# Altium integrated library Linear Technology PMIC-Switching Reg LTC1174-LTC3901.IntLib: 2647 symbols (part 192 of 310)
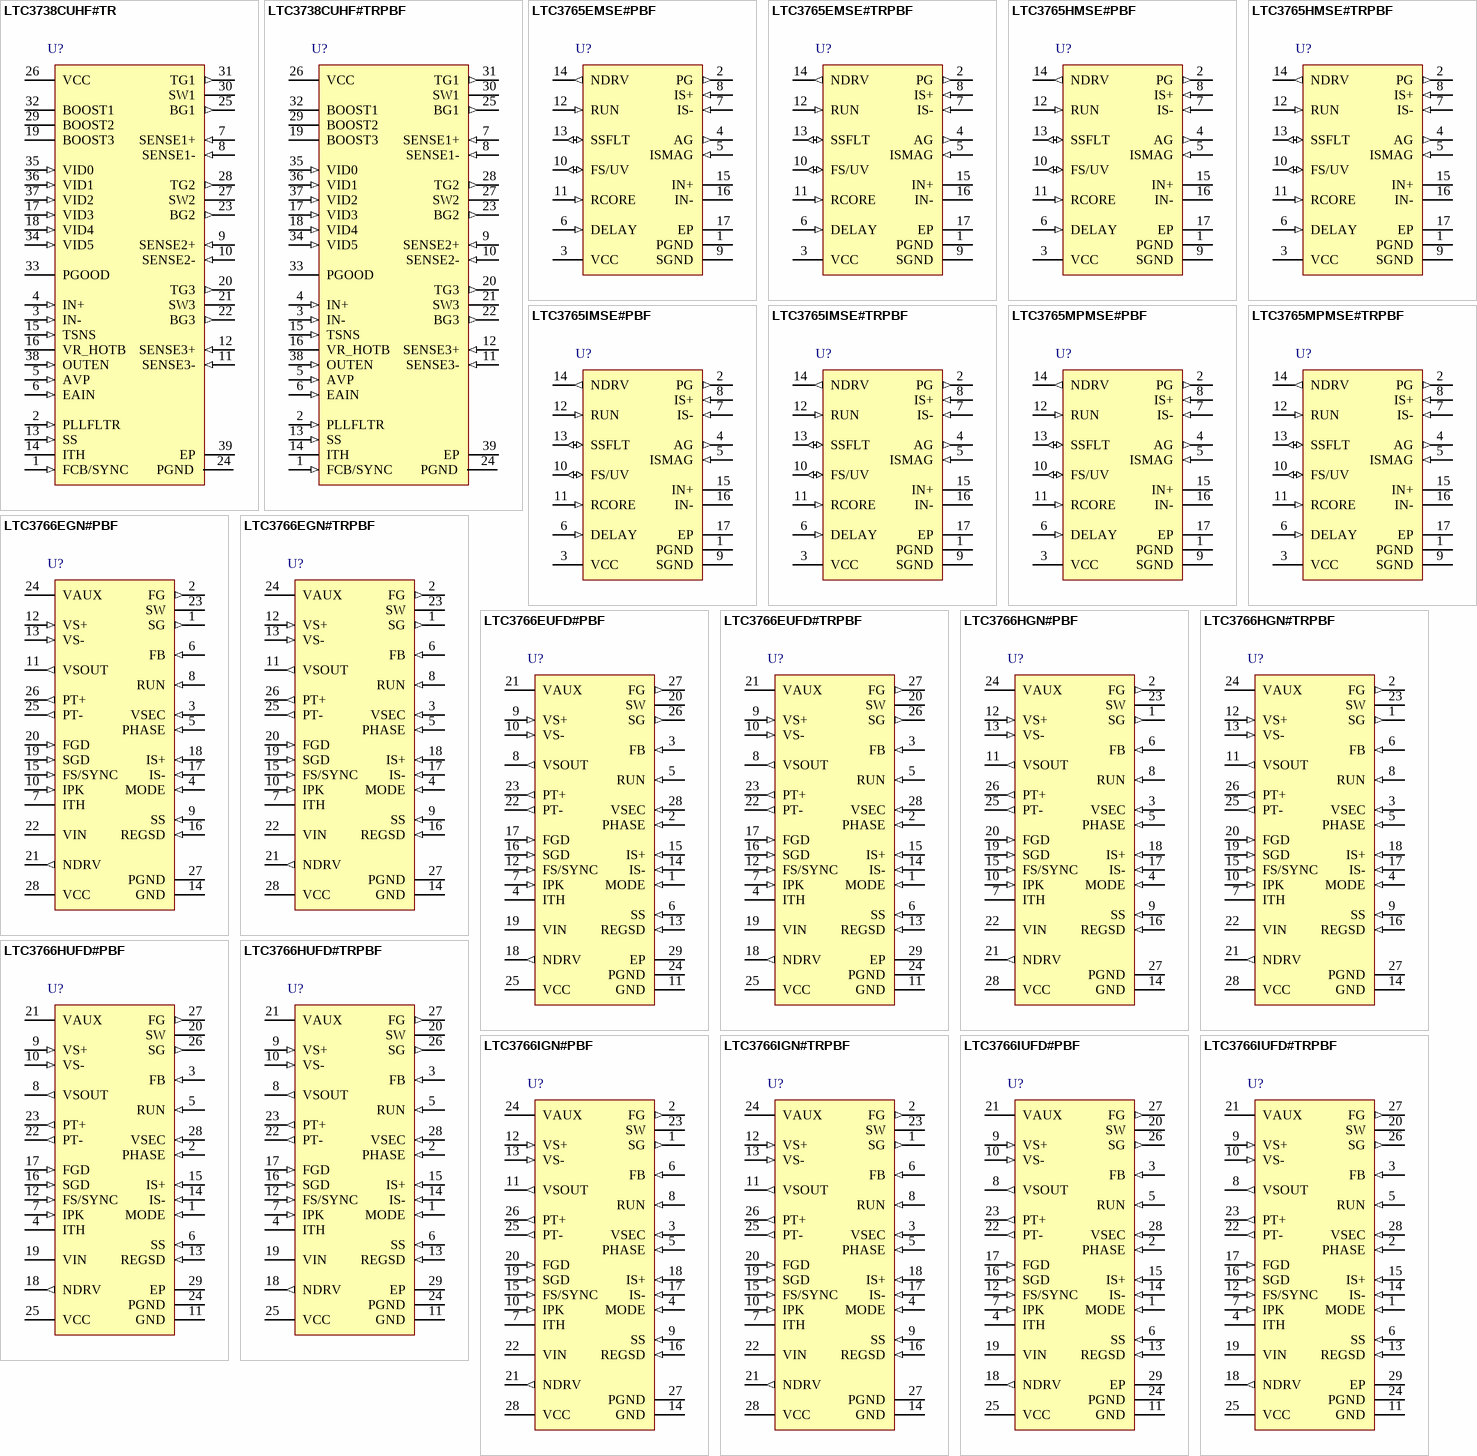
[diagram p227: symbols LTC3738CUHF#TR to LTC3766IUFD#TRPBF]

## LTC3766HGN#TRPBF
designator U?
High Efficiency, Secondary-Side Synchronous Forward Controller, 28-pin SOP (GN-28), -40 to150 degC, Pb-Free, Tape and Reel; Manufacturer: Linear Technology; PartNumber: LTC3766HGN#TRPBF; Number of Outputs: 1; PackageReference: GN-28; PackageDescription: 28-Pin Plastic SSOP, Body 9.9 x 3.9 mm, Pitch 0.635 mm; Supplier 1: Digi-Key; Supplier Part Number 1: LTC3766HGN#TRPBF-ND; RoHS: TRUE
footprint LT-GN-28_N (SOP, 28-Leads, Body 9.98x3.98mm, Pitch 0.635mm, IPC Medium Density)
footprint LT-GN-28_L (SOP, 28-Leads, Body 9.98x3.98mm, Pitch 0.635mm, IPC High Density)
footprint LT-GN-28_M (SOP, 28-Leads, Body 9.98x3.98mm, Pitch 0.635mm, IPC Low Density)
pins: 1 SG (out) "Gate Drive for the Synchronous MOSFET", 2 FG (out) "Gate Drive for the Forward MOSFET", 3 VSEC (in) "Volt-Second Limit. Connect a resistor from SW to VSEC, and a capacitor from VSEC to GND to set the maximum volt-second product that is applied to the main power transformer. The PWM on-time is terminated when the VSEC (See Datasheet)", 4 MODE (in) "For normal isolated applications using the LTC3765, tie to either GND or VCC to set the operating voltage to either low voltage or high voltage modes respectively, as needed to drive the gates of the synchronous and forward (See Datasheet)", 5 PHASE (in) "Control Input to the Phase Selector. This pin determines the phasing of the internal controller CLK relative to the synchronizing signal at the FS/SYNC pin.", 6 FB (in) "The Inverting Input of the Main Loop Error Amplifier. Tie to VCC to enable slave mode in PolyPhase applications.", 7 ITH "The Output of the Main Loop Error Amplifier. Place compensation components between the ITH pin and GND.", 8 RUN (in) "Run Control Input. Holding this pin below 1.22V will shut down the IC and reset the soft-start and REGSD pins to 0V.", 9 SS (in) "Soft-Start Inputs. A capacitor to ground sets the ramp time of the output voltage", 10 IPK (in) "Peak Current Limit Inductor Ripple Cancellation. This pin is used to adjust the peak current limit based on the amount of inductor current ripple, thereby providing a constant average output current during current limit. (See Datasheet)", 11 VSOUT (out) "VSOUT is the output of a precision, unity-gain differential amplifier. Tie VS+ and VS- to the output of the main DC/DC converter to achieve true remote differential sensing. Also, VS+ is used for directly sensing the output (See Datasheet)", 12 VS+ (in) "VSOUT is the output of a precision, unity-gain differential amplifier. Tie VS+ and VS- to the output of the main DC/DC converter to achieve true remote differential sensing. Also, VS+ is used for directly sensing the output (See Datasheet)", 13 VS- (in) "VSOUT is the output of a precision, unity-gain differential amplifier. Tie VS+ and VS- to the output of the main DC/DC converter to achieve true remote differential sensing. Also, VS+ is used for directly sensing the output (See Datasheet)", 14 GND (power) "Signal Ground and Kelvin Sense for SG Reverse Overcurrent. Connect to power ground at the source of the synchronous MOSFET. The exposed pad must be soldered to PCB ground for rated thermal performance.", 15 FS/SYNC (in) "Combination Frequency Set and Sync Pin. Tie to VCC to run at 275kHz. Place a resistor to ground at this pin to set the frequency between 75kHz and 500kHz. To synchronize, drive this pin with a clock signal to achieve PLL (See Datasheet)", 16 REGSD (in) "Regulator Shutdown Timer. Place a capacitor to ground to limit the time allowed for the high voltage linear regulator controller to operate. When the REGSD voltage exceeds 1.21V, the linear regulator is shut down. This pin (See Datasheet)", 17 IS- (in) "Negative Input to the Current Sense Circuit. Connect to the negative end of a low side current sense resistor. When using a current sense transformer, tie this pin to VCC for single-ended sensing on IS+ with a higher maximum (See Datasheet)", 18 IS+ (in) "Positive Input to the Current Sense Circuit. Connect to the positive end of a low side current sense resistor or to the output of a current sense transformer.", 19 SGD (in) "Synchronous Gate Rising Edge Delay. A resistor to GND sets the delay from primary gate turnoff (PT+ falling) to SG rising (and FG falling). This delay is used to optimize the dead time between the turn-off of the (See Datasheet)", 20 FGD (in) "Forward Gate Rising Edge Delay. A resistor to GND sets the delay from PT+ rising to FG rising (and SG falling). This delay is used to optimize the dead time between the turn-off of SG and the turn-on of theprimary-side (See Datasheet)", 21 NDRV (out) "Drive Output for the External Pass Device of the High Voltage Linear Regulator Controller. Connect to the base (NPN) or gate (MOSFET) of an external N-type device. Tie to VCC pin if only using the internal LDO (VAUX pin).", 22 VIN (power) "Connect to a higher voltage bias supply when using the linear regulator controller. The VIN pin supplies bias to the internal standby and monitoring circuits, the linear regulator controller, and the differential amplifier. (See Datasheet)", 23 SW "Connect (Kelvin) to the drain of the synchronous MOSFET. This input is used for adaptive shoot-through prevention and leading-edge blanking, monitoring the high level SW node voltage and SG reversecurrent protection. When SW (See Datasheet)", 24 VAUX (power) "Auxiliary Power Input. This is the power input to an internal LDO that is connected to VCC. Whenever VAUX is greater than 4.7V (or 8V for high voltage mode), this LDO will supply power to VCC, bypassing the main linear (See Datasheet)", 25 PT- (out) "Pulse Transformer Driver Outputs. For most applications, these connect to a pulse transformer through a series DC-blocking capacitor. The PWM information is multiplexed together with DC power and sent through the pulse (See Datasheet)", 26 PT+ (out) "Pulse Transformer Driver Outputs. For most applications, these connect to a pulse transformer through a series DC-blocking capacitor. The PWM information is multiplexed together with DC power and sent through the pulse (See Datasheet)", 27 PGND (power) "Gate Driver Ground Pin. Connect to power ground at the source of the synchronous MOSFET.", 28 VCC (power) "Main VCC Input for All Driver and Control Circuitry."

## LTC3766HUFD#PBF
designator U?
High Efficiency, Secondary-Side Synchronous Forward Controller, 28-pin QFN (UFD-28), -40 to150 degC, Pb-Free; Manufacturer: Linear Technology; PartNumber: LTC3766HUFD#PBF; Number of Outputs: 1; PackageReference: UFD-28; PackageDescription: 28-Pin Plastic QFN, Body 5 x 4 mm, Pitch 0.5 mm; Supplier 1: Digi-Key; Supplier Part Number 1: LTC3766HUFD#PBF-ND; RoHS: TRUE; Code_JEDEC: MO-220
footprint LT-UFD-28_N (QFN, 28-Leads, Body 5.1x4.1mm, Pitch 0.5mm, Thermal Pad 3.65x2.65mm, IPC Medium Density)
footprint LT-UFD-28_L (QFN, 28-Leads, Body 5.1x4.1mm, Pitch 0.5mm, Thermal Pad 3.65x2.65mm, IPC High Density)
footprint LT-UFD-28_M (QFN, 28-Leads, Body 5.1x4.1mm, Pitch 0.5mm, Thermal Pad 3.65x2.65mm, IPC Low Density)
pins: 1 MODE (in) "For normal isolated applications using the LTC3765, tie to either GND or VCC to set the operating voltage to either low voltage or high voltage modes respectively, as needed to drive the gates of the synchronous and forward (See Datasheet)", 2 PHASE (in) "Control Input to the Phase Selector. This pin determines the phasing of the internal controller CLK relative to the synchronizing signal at the FS/SYNC pin.", 3 FB (in) "The Inverting Input of the Main Loop Error Amplifier. Tie to VCC to enable slave mode in PolyPhase applications.", 4 ITH "The Output of the Main Loop Error Amplifier. Place compensation components between the ITH pin and GND.", 5 RUN (in) "Run Control Input. Holding this pin below 1.22V will shut down the IC and reset the soft-start and REGSD pins to 0V.", 6 SS (in) "Soft-Start Inputs. A capacitor to ground sets the ramp time of the output voltage", 7 IPK (in) "Peak Current Limit Inductor Ripple Cancellation. This pin is used to adjust the peak current limit based on the amount of inductor current ripple, thereby providing a constant average output current during current limit. (See Datasheet)", 8 VSOUT (out) "VSOUT is the output of a precision, unity-gain differential amplifier. Tie VS+ and VS- to the output of the main DC/DC converter to achieve true remote differential sensing. Also, VS+ is used for directly sensing the output (See Datasheet)", 9 VS+ (in) "VSOUT is the output of a precision, unity-gain differential amplifier. Tie VS+ and VS- to the output of the main DC/DC converter to achieve true remote differential sensing. Also, VS+ is used for directly sensing the output (See Datasheet)", 10 VS- (in) "VSOUT is the output of a precision, unity-gain differential amplifier. Tie VS+ and VS- to the output of the main DC/DC converter to achieve true remote differential sensing. Also, VS+ is used for directly sensing the output (See Datasheet)", 11 GND (power) "Signal Ground and Kelvin Sense for SG Reverse Overcurrent. Connect to power ground at the source of the synchronous MOSFET. The exposed pad must be soldered to PCB ground for rated thermal performance.", 12 FS/SYNC (in) "Combination Frequency Set and Sync Pin. Tie to VCC to run at 275kHz. Place a resistor to ground at this pin to set the frequency between 75kHz and 500kHz. To synchronize, drive this pin with a clock signal to achieve PLL (See Datasheet)", 13 REGSD (in) "Regulator Shutdown Timer. Place a capacitor to ground to limit the time allowed for the high voltage linear regulator controller to operate. When the REGSD voltage exceeds 1.21V, the linear regulator is shut down. This pin (See Datasheet)", 14 IS- (in) "Negative Input to the Current Sense Circuit. Connect to the negative end of a low side current sense resistor. When using a current sense transformer, tie this pin to VCC for single-ended sensing on IS+ with a higher maximum (See Datasheet)", 15 IS+ (in) "Positive Input to the Current Sense Circuit. Connect to the positive end of a low side current sense resistor or to the output of a current sense transformer.", 16 SGD (in) "Synchronous Gate Rising Edge Delay. A resistor to GND sets the delay from primary gate turnoff (PT+ falling) to SG rising (and FG falling). This delay is used to optimize the dead time between the turn-off of the (See Datasheet)", 17 FGD (in) "Forward Gate Rising Edge Delay. A resistor to GND sets the delay from PT+ rising to FG rising (and SG falling). This delay is used to optimize the dead time between the turn-off of SG and the turn-on of theprimary-side (See Datasheet)", 18 NDRV (out) "Drive Output for the External Pass Device of the High Voltage Linear Regulator Controller. Connect to the base (NPN) or gate (MOSFET) of an external N-type device. Tie to VCC pin if only using the internal LDO (VAUX pin).", 19 VIN (power) "Connect to a higher voltage bias supply when using the linear regulator controller. The VIN pin supplies bias to the internal standby and monitoring circuits, the linear regulator controller, and the differential amplifier. (See Datasheet)", 20 SW "Connect (Kelvin) to the drain of the synchronous MOSFET. This input is used for adaptive shoot-through prevention and leading-edge blanking, monitoring the high level SW node voltage and SG reversecurrent protection. When SW (See Datasheet)", 21 VAUX (power) "Auxiliary Power Input. This is the power input to an internal LDO that is connected to VCC. Whenever VAUX is greater than 4.7V (or 8V for high voltage mode), this LDO will supply power to VCC, bypassing the main linear (See Datasheet)", 22 PT- (out) "Pulse Transformer Driver Outputs. For most applications, these connect to a pulse transformer through a series DC-blocking capacitor. The PWM information is multiplexed together with DC power and sent through the pulse (See Datasheet)", 23 PT+ (out) "Pulse Transformer Driver Outputs. For most applications, these connect to a pulse transformer through a series DC-blocking capacitor. The PWM information is multiplexed together with DC power and sent through the pulse (See Datasheet)", 24 PGND (power) "Gate Driver Ground Pin. Connect to power ground at the source of the synchronous MOSFET.", 25 VCC (power) "Main VCC Input for All Driver and Control Circuitry.", 26 SG (out) "Gate Drive for the Synchronous MOSFET", 27 FG (out) "Gate Drive for the Forward MOSFET", 28 VSEC (in) "Volt-Second Limit. Connect a resistor from SW to VSEC, and a capacitor from VSEC to GND to set the maximum volt-second product that is applied to the main power transformer. The PWM on-time is terminated when the VSEC (See Datasheet)", 29 EP (power) "Signal Ground and Kelvin Sense for SG Reverse Overcurrent. Connect to power ground at the source of the synchronous MOSFET. The exposed pad must be soldered to PCB ground for rated thermal performance."

## LTC3766HUFD#TRPBF
designator U?
High Efficiency, Secondary-Side Synchronous Forward Controller, 28-pin QFN (UFD-28), -40 to150 degC, Pb-Free, Tape and Reel; Manufacturer: Linear Technology; PartNumber: LTC3766HUFD#TRPBF; Number of Outputs: 1; PackageReference: UFD-28; PackageDescription: 28-Pin Plastic QFN, Body 5 x 4 mm, Pitch 0.5 mm; Supplier 1: Digi-Key; Supplier Part Number 1: LTC3766HUFD#TRPBF-ND; RoHS: TRUE; Code_JEDEC: MO-220
footprint LT-UFD-28_N (QFN, 28-Leads, Body 5.1x4.1mm, Pitch 0.5mm, Thermal Pad 3.65x2.65mm, IPC Medium Density)
footprint LT-UFD-28_L (QFN, 28-Leads, Body 5.1x4.1mm, Pitch 0.5mm, Thermal Pad 3.65x2.65mm, IPC High Density)
footprint LT-UFD-28_M (QFN, 28-Leads, Body 5.1x4.1mm, Pitch 0.5mm, Thermal Pad 3.65x2.65mm, IPC Low Density)
pins: 1 MODE (in) "For normal isolated applications using the LTC3765, tie to either GND or VCC to set the operating voltage to either low voltage or high voltage modes respectively, as needed to drive the gates of the synchronous and forward (See Datasheet)", 2 PHASE (in) "Control Input to the Phase Selector. This pin determines the phasing of the internal controller CLK relative to the synchronizing signal at the FS/SYNC pin.", 3 FB (in) "The Inverting Input of the Main Loop Error Amplifier. Tie to VCC to enable slave mode in PolyPhase applications.", 4 ITH "The Output of the Main Loop Error Amplifier. Place compensation components between the ITH pin and GND.", 5 RUN (in) "Run Control Input. Holding this pin below 1.22V will shut down the IC and reset the soft-start and REGSD pins to 0V.", 6 SS (in) "Soft-Start Inputs. A capacitor to ground sets the ramp time of the output voltage", 7 IPK (in) "Peak Current Limit Inductor Ripple Cancellation. This pin is used to adjust the peak current limit based on the amount of inductor current ripple, thereby providing a constant average output current during current limit. (See Datasheet)", 8 VSOUT (out) "VSOUT is the output of a precision, unity-gain differential amplifier. Tie VS+ and VS- to the output of the main DC/DC converter to achieve true remote differential sensing. Also, VS+ is used for directly sensing the output (See Datasheet)", 9 VS+ (in) "VSOUT is the output of a precision, unity-gain differential amplifier. Tie VS+ and VS- to the output of the main DC/DC converter to achieve true remote differential sensing. Also, VS+ is used for directly sensing the output (See Datasheet)", 10 VS- (in) "VSOUT is the output of a precision, unity-gain differential amplifier. Tie VS+ and VS- to the output of the main DC/DC converter to achieve true remote differential sensing. Also, VS+ is used for directly sensing the output (See Datasheet)", 11 GND (power) "Signal Ground and Kelvin Sense for SG Reverse Overcurrent. Connect to power ground at the source of the synchronous MOSFET. The exposed pad must be soldered to PCB ground for rated thermal performance.", 12 FS/SYNC (in) "Combination Frequency Set and Sync Pin. Tie to VCC to run at 275kHz. Place a resistor to ground at this pin to set the frequency between 75kHz and 500kHz. To synchronize, drive this pin with a clock signal to achieve PLL (See Datasheet)", 13 REGSD (in) "Regulator Shutdown Timer. Place a capacitor to ground to limit the time allowed for the high voltage linear regulator controller to operate. When the REGSD voltage exceeds 1.21V, the linear regulator is shut down. This pin (See Datasheet)", 14 IS- (in) "Negative Input to the Current Sense Circuit. Connect to the negative end of a low side current sense resistor. When using a current sense transformer, tie this pin to VCC for single-ended sensing on IS+ with a higher maximum (See Datasheet)", 15 IS+ (in) "Positive Input to the Current Sense Circuit. Connect to the positive end of a low side current sense resistor or to the output of a current sense transformer.", 16 SGD (in) "Synchronous Gate Rising Edge Delay. A resistor to GND sets the delay from primary gate turnoff (PT+ falling) to SG rising (and FG falling). This delay is used to optimize the dead time between the turn-off of the (See Datasheet)", 17 FGD (in) "Forward Gate Rising Edge Delay. A resistor to GND sets the delay from PT+ rising to FG rising (and SG falling). This delay is used to optimize the dead time between the turn-off of SG and the turn-on of theprimary-side (See Datasheet)", 18 NDRV (out) "Drive Output for the External Pass Device of the High Voltage Linear Regulator Controller. Connect to the base (NPN) or gate (MOSFET) of an external N-type device. Tie to VCC pin if only using the internal LDO (VAUX pin).", 19 VIN (power) "Connect to a higher voltage bias supply when using the linear regulator controller. The VIN pin supplies bias to the internal standby and monitoring circuits, the linear regulator controller, and the differential amplifier. (See Datasheet)", 20 SW "Connect (Kelvin) to the drain of the synchronous MOSFET. This input is used for adaptive shoot-through prevention and leading-edge blanking, monitoring the high level SW node voltage and SG reversecurrent protection. When SW (See Datasheet)", 21 VAUX (power) "Auxiliary Power Input. This is the power input to an internal LDO that is connected to VCC. Whenever VAUX is greater than 4.7V (or 8V for high voltage mode), this LDO will supply power to VCC, bypassing the main linear (See Datasheet)", 22 PT- (out) "Pulse Transformer Driver Outputs. For most applications, these connect to a pulse transformer through a series DC-blocking capacitor. The PWM information is multiplexed together with DC power and sent through the pulse (See Datasheet)", 23 PT+ (out) "Pulse Transformer Driver Outputs. For most applications, these connect to a pulse transformer through a series DC-blocking capacitor. The PWM information is multiplexed together with DC power and sent through the pulse (See Datasheet)", 24 PGND (power) "Gate Driver Ground Pin. Connect to power ground at the source of the synchronous MOSFET.", 25 VCC (power) "Main VCC Input for All Driver and Control Circuitry.", 26 SG (out) "Gate Drive for the Synchronous MOSFET", 27 FG (out) "Gate Drive for the Forward MOSFET", 28 VSEC (in) "Volt-Second Limit. Connect a resistor from SW to VSEC, and a capacitor from VSEC to GND to set the maximum volt-second product that is applied to the main power transformer. The PWM on-time is terminated when the VSEC (See Datasheet)", 29 EP (power) "Signal Ground and Kelvin Sense for SG Reverse Overcurrent. Connect to power ground at the source of the synchronous MOSFET. The exposed pad must be soldered to PCB ground for rated thermal performance."

## LTC3766IGN#PBF
designator U?
High Efficiency, Secondary-Side Synchronous Forward Controller, 28-pin SOP (GN-28), -40 to 125 degC, Pb-Free; Manufacturer: Linear Technology; PartNumber: LTC3766IGN#PBF; Number of Outputs: 1; PackageReference: GN-28; PackageDescription: 28-Pin Plastic SSOP, Body 9.9 x 3.9 mm, Pitch 0.635 mm; Supplier 1: Digi-Key; Supplier Part Number 1: LTC3766IGN#PBF-ND; RoHS: TRUE
footprint LT-GN-28_N (SOP, 28-Leads, Body 9.98x3.98mm, Pitch 0.635mm, IPC Medium Density)
footprint LT-GN-28_L (SOP, 28-Leads, Body 9.98x3.98mm, Pitch 0.635mm, IPC High Density)
footprint LT-GN-28_M (SOP, 28-Leads, Body 9.98x3.98mm, Pitch 0.635mm, IPC Low Density)
pins: 1 SG (out) "Gate Drive for the Synchronous MOSFET", 2 FG (out) "Gate Drive for the Forward MOSFET", 3 VSEC (in) "Volt-Second Limit. Connect a resistor from SW to VSEC, and a capacitor from VSEC to GND to set the maximum volt-second product that is applied to the main power transformer. The PWM on-time is terminated when the VSEC (See Datasheet)", 4 MODE (in) "For normal isolated applications using the LTC3765, tie to either GND or VCC to set the operating voltage to either low voltage or high voltage modes respectively, as needed to drive the gates of the synchronous and forward (See Datasheet)", 5 PHASE (in) "Control Input to the Phase Selector. This pin determines the phasing of the internal controller CLK relative to the synchronizing signal at the FS/SYNC pin.", 6 FB (in) "The Inverting Input of the Main Loop Error Amplifier. Tie to VCC to enable slave mode in PolyPhase applications.", 7 ITH "The Output of the Main Loop Error Amplifier. Place compensation components between the ITH pin and GND.", 8 RUN (in) "Run Control Input. Holding this pin below 1.22V will shut down the IC and reset the soft-start and REGSD pins to 0V.", 9 SS (in) "Soft-Start Inputs. A capacitor to ground sets the ramp time of the output voltage", 10 IPK (in) "Peak Current Limit Inductor Ripple Cancellation. This pin is used to adjust the peak current limit based on the amount of inductor current ripple, thereby providing a constant average output current during current limit. (See Datasheet)", 11 VSOUT (out) "VSOUT is the output of a precision, unity-gain differential amplifier. Tie VS+ and VS- to the output of the main DC/DC converter to achieve true remote differential sensing. Also, VS+ is used for directly sensing the output (See Datasheet)", 12 VS+ (in) "VSOUT is the output of a precision, unity-gain differential amplifier. Tie VS+ and VS- to the output of the main DC/DC converter to achieve true remote differential sensing. Also, VS+ is used for directly sensing the output (See Datasheet)", 13 VS- (in) "VSOUT is the output of a precision, unity-gain differential amplifier. Tie VS+ and VS- to the output of the main DC/DC converter to achieve true remote differential sensing. Also, VS+ is used for directly sensing the output (See Datasheet)", 14 GND (power) "Signal Ground and Kelvin Sense for SG Reverse Overcurrent. Connect to power ground at the source of the synchronous MOSFET. The exposed pad must be soldered to PCB ground for rated thermal performance.", 15 FS/SYNC (in) "Combination Frequency Set and Sync Pin. Tie to VCC to run at 275kHz. Place a resistor to ground at this pin to set the frequency between 75kHz and 500kHz. To synchronize, drive this pin with a clock signal to achieve PLL (See Datasheet)", 16 REGSD (in) "Regulator Shutdown Timer. Place a capacitor to ground to limit the time allowed for the high voltage linear regulator controller to operate. When the REGSD voltage exceeds 1.21V, the linear regulator is shut down. This pin (See Datasheet)", 17 IS- (in) "Negative Input to the Current Sense Circuit. Connect to the negative end of a low side current sense resistor. When using a current sense transformer, tie this pin to VCC for single-ended sensing on IS+ with a higher maximum (See Datasheet)", 18 IS+ (in) "Positive Input to the Current Sense Circuit. Connect to the positive end of a low side current sense resistor or to the output of a current sense transformer.", 19 SGD (in) "Synchronous Gate Rising Edge Delay. A resistor to GND sets the delay from primary gate turnoff (PT+ falling) to SG rising (and FG falling). This delay is used to optimize the dead time between the turn-off of the (See Datasheet)", 20 FGD (in) "Forward Gate Rising Edge Delay. A resistor to GND sets the delay from PT+ rising to FG rising (and SG falling). This delay is used to optimize the dead time between the turn-off of SG and the turn-on of theprimary-side (See Datasheet)", 21 NDRV (out) "Drive Output for the External Pass Device of the High Voltage Linear Regulator Controller. Connect to the base (NPN) or gate (MOSFET) of an external N-type device. Tie to VCC pin if only using the internal LDO (VAUX pin).", 22 VIN (power) "Connect to a higher voltage bias supply when using the linear regulator controller. The VIN pin supplies bias to the internal standby and monitoring circuits, the linear regulator controller, and the differential amplifier. (See Datasheet)", 23 SW "Connect (Kelvin) to the drain of the synchronous MOSFET. This input is used for adaptive shoot-through prevention and leading-edge blanking, monitoring the high level SW node voltage and SG reversecurrent protection. When SW (See Datasheet)", 24 VAUX (power) "Auxiliary Power Input. This is the power input to an internal LDO that is connected to VCC. Whenever VAUX is greater than 4.7V (or 8V for high voltage mode), this LDO will supply power to VCC, bypassing the main linear (See Datasheet)", 25 PT- (out) "Pulse Transformer Driver Outputs. For most applications, these connect to a pulse transformer through a series DC-blocking capacitor. The PWM information is multiplexed together with DC power and sent through the pulse (See Datasheet)", 26 PT+ (out) "Pulse Transformer Driver Outputs. For most applications, these connect to a pulse transformer through a series DC-blocking capacitor. The PWM information is multiplexed together with DC power and sent through the pulse (See Datasheet)", 27 PGND (power) "Gate Driver Ground Pin. Connect to power ground at the source of the synchronous MOSFET.", 28 VCC (power) "Main VCC Input for All Driver and Control Circuitry."

## LTC3766IGN#TRPBF
designator U?
High Efficiency, Secondary-Side Synchronous Forward Controller, 28-pin SOP (GN-28), -40 to 125 degC, Pb-Free, Tape and Reel; Manufacturer: Linear Technology; PartNumber: LTC3766IGN#TRPBF; Number of Outputs: 1; PackageReference: GN-28; PackageDescription: 28-Pin Plastic SSOP, Body 9.9 x 3.9 mm, Pitch 0.635 mm; Supplier 1: Digi-Key; Supplier Part Number 1: LTC3766IGN#TRPBF-ND; RoHS: TRUE
footprint LT-GN-28_N (SOP, 28-Leads, Body 9.98x3.98mm, Pitch 0.635mm, IPC Medium Density)
footprint LT-GN-28_L (SOP, 28-Leads, Body 9.98x3.98mm, Pitch 0.635mm, IPC High Density)
footprint LT-GN-28_M (SOP, 28-Leads, Body 9.98x3.98mm, Pitch 0.635mm, IPC Low Density)
pins: 1 SG (out) "Gate Drive for the Synchronous MOSFET", 2 FG (out) "Gate Drive for the Forward MOSFET", 3 VSEC (in) "Volt-Second Limit. Connect a resistor from SW to VSEC, and a capacitor from VSEC to GND to set the maximum volt-second product that is applied to the main power transformer. The PWM on-time is terminated when the VSEC (See Datasheet)", 4 MODE (in) "For normal isolated applications using the LTC3765, tie to either GND or VCC to set the operating voltage to either low voltage or high voltage modes respectively, as needed to drive the gates of the synchronous and forward (See Datasheet)", 5 PHASE (in) "Control Input to the Phase Selector. This pin determines the phasing of the internal controller CLK relative to the synchronizing signal at the FS/SYNC pin.", 6 FB (in) "The Inverting Input of the Main Loop Error Amplifier. Tie to VCC to enable slave mode in PolyPhase applications.", 7 ITH "The Output of the Main Loop Error Amplifier. Place compensation components between the ITH pin and GND.", 8 RUN (in) "Run Control Input. Holding this pin below 1.22V will shut down the IC and reset the soft-start and REGSD pins to 0V.", 9 SS (in) "Soft-Start Inputs. A capacitor to ground sets the ramp time of the output voltage", 10 IPK (in) "Peak Current Limit Inductor Ripple Cancellation. This pin is used to adjust the peak current limit based on the amount of inductor current ripple, thereby providing a constant average output current during current limit. (See Datasheet)", 11 VSOUT (out) "VSOUT is the output of a precision, unity-gain differential amplifier. Tie VS+ and VS- to the output of the main DC/DC converter to achieve true remote differential sensing. Also, VS+ is used for directly sensing the output (See Datasheet)", 12 VS+ (in) "VSOUT is the output of a precision, unity-gain differential amplifier. Tie VS+ and VS- to the output of the main DC/DC converter to achieve true remote differential sensing. Also, VS+ is used for directly sensing the output (See Datasheet)", 13 VS- (in) "VSOUT is the output of a precision, unity-gain differential amplifier. Tie VS+ and VS- to the output of the main DC/DC converter to achieve true remote differential sensing. Also, VS+ is used for directly sensing the output (See Datasheet)", 14 GND (power) "Signal Ground and Kelvin Sense for SG Reverse Overcurrent. Connect to power ground at the source of the synchronous MOSFET. The exposed pad must be soldered to PCB ground for rated thermal performance.", 15 FS/SYNC (in) "Combination Frequency Set and Sync Pin. Tie to VCC to run at 275kHz. Place a resistor to ground at this pin to set the frequency between 75kHz and 500kHz. To synchronize, drive this pin with a clock signal to achieve PLL (See Datasheet)", 16 REGSD (in) "Regulator Shutdown Timer. Place a capacitor to ground to limit the time allowed for the high voltage linear regulator controller to operate. When the REGSD voltage exceeds 1.21V, the linear regulator is shut down. This pin (See Datasheet)", 17 IS- (in) "Negative Input to the Current Sense Circuit. Connect to the negative end of a low side current sense resistor. When using a current sense transformer, tie this pin to VCC for single-ended sensing on IS+ with a higher maximum (See Datasheet)", 18 IS+ (in) "Positive Input to the Current Sense Circuit. Connect to the positive end of a low side current sense resistor or to the output of a current sense transformer.", 19 SGD (in) "Synchronous Gate Rising Edge Delay. A resistor to GND sets the delay from primary gate turnoff (PT+ falling) to SG rising (and FG falling). This delay is used to optimize the dead time between the turn-off of the (See Datasheet)", 20 FGD (in) "Forward Gate Rising Edge Delay. A resistor to GND sets the delay from PT+ rising to FG rising (and SG falling). This delay is used to optimize the dead time between the turn-off of SG and the turn-on of theprimary-side (See Datasheet)", 21 NDRV (out) "Drive Output for the External Pass Device of the High Voltage Linear Regulator Controller. Connect to the base (NPN) or gate (MOSFET) of an external N-type device. Tie to VCC pin if only using the internal LDO (VAUX pin).", 22 VIN (power) "Connect to a higher voltage bias supply when using the linear regulator controller. The VIN pin supplies bias to the internal standby and monitoring circuits, the linear regulator controller, and the differential amplifier. (See Datasheet)", 23 SW "Connect (Kelvin) to the drain of the synchronous MOSFET. This input is used for adaptive shoot-through prevention and leading-edge blanking, monitoring the high level SW node voltage and SG reversecurrent protection. When SW (See Datasheet)", 24 VAUX (power) "Auxiliary Power Input. This is the power input to an internal LDO that is connected to VCC. Whenever VAUX is greater than 4.7V (or 8V for high voltage mode), this LDO will supply power to VCC, bypassing the main linear (See Datasheet)", 25 PT- (out) "Pulse Transformer Driver Outputs. For most applications, these connect to a pulse transformer through a series DC-blocking capacitor. The PWM information is multiplexed together with DC power and sent through the pulse (See Datasheet)", 26 PT+ (out) "Pulse Transformer Driver Outputs. For most applications, these connect to a pulse transformer through a series DC-blocking capacitor. The PWM information is multiplexed together with DC power and sent through the pulse (See Datasheet)", 27 PGND (power) "Gate Driver Ground Pin. Connect to power ground at the source of the synchronous MOSFET.", 28 VCC (power) "Main VCC Input for All Driver and Control Circuitry."

## LTC3766IUFD#PBF
designator U?
High Efficiency, Secondary-Side Synchronous Forward Controller, 28-pin QFN (UFD-28), -40 to 125 degC, Pb-Free; Manufacturer: Linear Technology; PartNumber: LTC3766IUFD#PBF; Number of Outputs: 1; PackageReference: UFD-28; PackageDescription: 28-Pin Plastic QFN, Body 5 x 4 mm, Pitch 0.5 mm; Supplier 1: Digi-Key; Supplier Part Number 1: LTC3766IUFD#PBF-ND; RoHS: TRUE; Code_JEDEC: MO-220
footprint LT-UFD-28_N (QFN, 28-Leads, Body 5.1x4.1mm, Pitch 0.5mm, Thermal Pad 3.65x2.65mm, IPC Medium Density)
footprint LT-UFD-28_L (QFN, 28-Leads, Body 5.1x4.1mm, Pitch 0.5mm, Thermal Pad 3.65x2.65mm, IPC High Density)
footprint LT-UFD-28_M (QFN, 28-Leads, Body 5.1x4.1mm, Pitch 0.5mm, Thermal Pad 3.65x2.65mm, IPC Low Density)
pins: 1 MODE (in) "For normal isolated applications using the LTC3765, tie to either GND or VCC to set the operating voltage to either low voltage or high voltage modes respectively, as needed to drive the gates of the synchronous and forward (See Datasheet)", 2 PHASE (in) "Control Input to the Phase Selector. This pin determines the phasing of the internal controller CLK relative to the synchronizing signal at the FS/SYNC pin.", 3 FB (in) "The Inverting Input of the Main Loop Error Amplifier. Tie to VCC to enable slave mode in PolyPhase applications.", 4 ITH "The Output of the Main Loop Error Amplifier. Place compensation components between the ITH pin and GND.", 5 RUN (in) "Run Control Input. Holding this pin below 1.22V will shut down the IC and reset the soft-start and REGSD pins to 0V.", 6 SS (in) "Soft-Start Inputs. A capacitor to ground sets the ramp time of the output voltage", 7 IPK (in) "Peak Current Limit Inductor Ripple Cancellation. This pin is used to adjust the peak current limit based on the amount of inductor current ripple, thereby providing a constant average output current during current limit. (See Datasheet)", 8 VSOUT (out) "VSOUT is the output of a precision, unity-gain differential amplifier. Tie VS+ and VS- to the output of the main DC/DC converter to achieve true remote differential sensing. Also, VS+ is used for directly sensing the output (See Datasheet)", 9 VS+ (in) "VSOUT is the output of a precision, unity-gain differential amplifier. Tie VS+ and VS- to the output of the main DC/DC converter to achieve true remote differential sensing. Also, VS+ is used for directly sensing the output (See Datasheet)", 10 VS- (in) "VSOUT is the output of a precision, unity-gain differential amplifier. Tie VS+ and VS- to the output of the main DC/DC converter to achieve true remote differential sensing. Also, VS+ is used for directly sensing the output (See Datasheet)", 11 GND (power) "Signal Ground and Kelvin Sense for SG Reverse Overcurrent. Connect to power ground at the source of the synchronous MOSFET. The exposed pad must be soldered to PCB ground for rated thermal performance.", 12 FS/SYNC (in) "Combination Frequency Set and Sync Pin. Tie to VCC to run at 275kHz. Place a resistor to ground at this pin to set the frequency between 75kHz and 500kHz. To synchronize, drive this pin with a clock signal to achieve PLL (See Datasheet)", 13 REGSD (in) "Regulator Shutdown Timer. Place a capacitor to ground to limit the time allowed for the high voltage linear regulator controller to operate. When the REGSD voltage exceeds 1.21V, the linear regulator is shut down. This pin (See Datasheet)", 14 IS- (in) "Negative Input to the Current Sense Circuit. Connect to the negative end of a low side current sense resistor. When using a current sense transformer, tie this pin to VCC for single-ended sensing on IS+ with a higher maximum (See Datasheet)", 15 IS+ (in) "Positive Input to the Current Sense Circuit. Connect to the positive end of a low side current sense resistor or to the output of a current sense transformer.", 16 SGD (in) "Synchronous Gate Rising Edge Delay. A resistor to GND sets the delay from primary gate turnoff (PT+ falling) to SG rising (and FG falling). This delay is used to optimize the dead time between the turn-off of the (See Datasheet)", 17 FGD (in) "Forward Gate Rising Edge Delay. A resistor to GND sets the delay from PT+ rising to FG rising (and SG falling). This delay is used to optimize the dead time between the turn-off of SG and the turn-on of theprimary-side (See Datasheet)", 18 NDRV (out) "Drive Output for the External Pass Device of the High Voltage Linear Regulator Controller. Connect to the base (NPN) or gate (MOSFET) of an external N-type device. Tie to VCC pin if only using the internal LDO (VAUX pin).", 19 VIN (power) "Connect to a higher voltage bias supply when using the linear regulator controller. The VIN pin supplies bias to the internal standby and monitoring circuits, the linear regulator controller, and the differential amplifier. (See Datasheet)", 20 SW "Connect (Kelvin) to the drain of the synchronous MOSFET. This input is used for adaptive shoot-through prevention and leading-edge blanking, monitoring the high level SW node voltage and SG reversecurrent protection. When SW (See Datasheet)", 21 VAUX (power) "Auxiliary Power Input. This is the power input to an internal LDO that is connected to VCC. Whenever VAUX is greater than 4.7V (or 8V for high voltage mode), this LDO will supply power to VCC, bypassing the main linear (See Datasheet)", 22 PT- (out) "Pulse Transformer Driver Outputs. For most applications, these connect to a pulse transformer through a series DC-blocking capacitor. The PWM information is multiplexed together with DC power and sent through the pulse (See Datasheet)", 23 PT+ (out) "Pulse Transformer Driver Outputs. For most applications, these connect to a pulse transformer through a series DC-blocking capacitor. The PWM information is multiplexed together with DC power and sent through the pulse (See Datasheet)", 24 PGND (power) "Gate Driver Ground Pin. Connect to power ground at the source of the synchronous MOSFET.", 25 VCC (power) "Main VCC Input for All Driver and Control Circuitry.", 26 SG (out) "Gate Drive for the Synchronous MOSFET", 27 FG (out) "Gate Drive for the Forward MOSFET", 28 VSEC (in) "Volt-Second Limit. Connect a resistor from SW to VSEC, and a capacitor from VSEC to GND to set the maximum volt-second product that is applied to the main power transformer. The PWM on-time is terminated when the VSEC (See Datasheet)", 29 EP (power) "Signal Ground and Kelvin Sense for SG Reverse Overcurrent. Connect to power ground at the source of the synchronous MOSFET. The exposed pad must be soldered to PCB ground for rated thermal performance."

## LTC3766IUFD#TRPBF
designator U?
High Efficiency, Secondary-Side Synchronous Forward Controller, 28-pin QFN (UFD-28), -40 to 125 degC, Pb-Free, Tape and Reel; Manufacturer: Linear Technology; PartNumber: LTC3766IUFD#TRPBF; Number of Outputs: 1; PackageReference: UFD-28; PackageDescription: 28-Pin Plastic QFN, Body 5 x 4 mm, Pitch 0.5 mm; Supplier 1: Digi-Key; Supplier Part Number 1: LTC3766IUFD#TRPBF-ND; RoHS: TRUE; Code_JEDEC: MO-220
footprint LT-UFD-28_N (QFN, 28-Leads, Body 5.1x4.1mm, Pitch 0.5mm, Thermal Pad 3.65x2.65mm, IPC Medium Density)
footprint LT-UFD-28_L (QFN, 28-Leads, Body 5.1x4.1mm, Pitch 0.5mm, Thermal Pad 3.65x2.65mm, IPC High Density)
footprint LT-UFD-28_M (QFN, 28-Leads, Body 5.1x4.1mm, Pitch 0.5mm, Thermal Pad 3.65x2.65mm, IPC Low Density)
pins: 1 MODE (in) "For normal isolated applications using the LTC3765, tie to either GND or VCC to set the operating voltage to either low voltage or high voltage modes respectively, as needed to drive the gates of the synchronous and forward (See Datasheet)", 2 PHASE (in) "Control Input to the Phase Selector. This pin determines the phasing of the internal controller CLK relative to the synchronizing signal at the FS/SYNC pin.", 3 FB (in) "The Inverting Input of the Main Loop Error Amplifier. Tie to VCC to enable slave mode in PolyPhase applications.", 4 ITH "The Output of the Main Loop Error Amplifier. Place compensation components between the ITH pin and GND.", 5 RUN (in) "Run Control Input. Holding this pin below 1.22V will shut down the IC and reset the soft-start and REGSD pins to 0V.", 6 SS (in) "Soft-Start Inputs. A capacitor to ground sets the ramp time of the output voltage", 7 IPK (in) "Peak Current Limit Inductor Ripple Cancellation. This pin is used to adjust the peak current limit based on the amount of inductor current ripple, thereby providing a constant average output current during current limit. (See Datasheet)", 8 VSOUT (out) "VSOUT is the output of a precision, unity-gain differential amplifier. Tie VS+ and VS- to the output of the main DC/DC converter to achieve true remote differential sensing. Also, VS+ is used for directly sensing the output (See Datasheet)", 9 VS+ (in) "VSOUT is the output of a precision, unity-gain differential amplifier. Tie VS+ and VS- to the output of the main DC/DC converter to achieve true remote differential sensing. Also, VS+ is used for directly sensing the output (See Datasheet)", 10 VS- (in) "VSOUT is the output of a precision, unity-gain differential amplifier. Tie VS+ and VS- to the output of the main DC/DC converter to achieve true remote differential sensing. Also, VS+ is used for directly sensing the output (See Datasheet)", 11 GND (power) "Signal Ground and Kelvin Sense for SG Reverse Overcurrent. Connect to power ground at the source of the synchronous MOSFET. The exposed pad must be soldered to PCB ground for rated thermal performance.", 12 FS/SYNC (in) "Combination Frequency Set and Sync Pin. Tie to VCC to run at 275kHz. Place a resistor to ground at this pin to set the frequency between 75kHz and 500kHz. To synchronize, drive this pin with a clock signal to achieve PLL (See Datasheet)", 13 REGSD (in) "Regulator Shutdown Timer. Place a capacitor to ground to limit the time allowed for the high voltage linear regulator controller to operate. When the REGSD voltage exceeds 1.21V, the linear regulator is shut down. This pin (See Datasheet)", 14 IS- (in) "Negative Input to the Current Sense Circuit. Connect to the negative end of a low side current sense resistor. When using a current sense transformer, tie this pin to VCC for single-ended sensing on IS+ with a higher maximum (See Datasheet)", 15 IS+ (in) "Positive Input to the Current Sense Circuit. Connect to the positive end of a low side current sense resistor or to the output of a current sense transformer.", 16 SGD (in) "Synchronous Gate Rising Edge Delay. A resistor to GND sets the delay from primary gate turnoff (PT+ falling) to SG rising (and FG falling). This delay is used to optimize the dead time between the turn-off of the (See Datasheet)", 17 FGD (in) "Forward Gate Rising Edge Delay. A resistor to GND sets the delay from PT+ rising to FG rising (and SG falling). This delay is used to optimize the dead time between the turn-off of SG and the turn-on of theprimary-side (See Datasheet)", 18 NDRV (out) "Drive Output for the External Pass Device of the High Voltage Linear Regulator Controller. Connect to the base (NPN) or gate (MOSFET) of an external N-type device. Tie to VCC pin if only using the internal LDO (VAUX pin).", 19 VIN (power) "Connect to a higher voltage bias supply when using the linear regulator controller. The VIN pin supplies bias to the internal standby and monitoring circuits, the linear regulator controller, and the differential amplifier. (See Datasheet)", 20 SW "Connect (Kelvin) to the drain of the synchronous MOSFET. This input is used for adaptive shoot-through prevention and leading-edge blanking, monitoring the high level SW node voltage and SG reversecurrent protection. When SW (See Datasheet)", 21 VAUX (power) "Auxiliary Power Input. This is the power input to an internal LDO that is connected to VCC. Whenever VAUX is greater than 4.7V (or 8V for high voltage mode), this LDO will supply power to VCC, bypassing the main linear (See Datasheet)", 22 PT- (out) "Pulse Transformer Driver Outputs. For most applications, these connect to a pulse transformer through a series DC-blocking capacitor. The PWM information is multiplexed together with DC power and sent through the pulse (See Datasheet)", 23 PT+ (out) "Pulse Transformer Driver Outputs. For most applications, these connect to a pulse transformer through a series DC-blocking capacitor. The PWM information is multiplexed together with DC power and sent through the pulse (See Datasheet)", 24 PGND (power) "Gate Driver Ground Pin. Connect to power ground at the source of the synchronous MOSFET.", 25 VCC (power) "Main VCC Input for All Driver and Control Circuitry.", 26 SG (out) "Gate Drive for the Synchronous MOSFET", 27 FG (out) "Gate Drive for the Forward MOSFET", 28 VSEC (in) "Volt-Second Limit. Connect a resistor from SW to VSEC, and a capacitor from VSEC to GND to set the maximum volt-second product that is applied to the main power transformer. The PWM on-time is terminated when the VSEC (See Datasheet)", 29 EP (power) "Signal Ground and Kelvin Sense for SG Reverse Overcurrent. Connect to power ground at the source of the synchronous MOSFET. The exposed pad must be soldered to PCB ground for rated thermal performance."

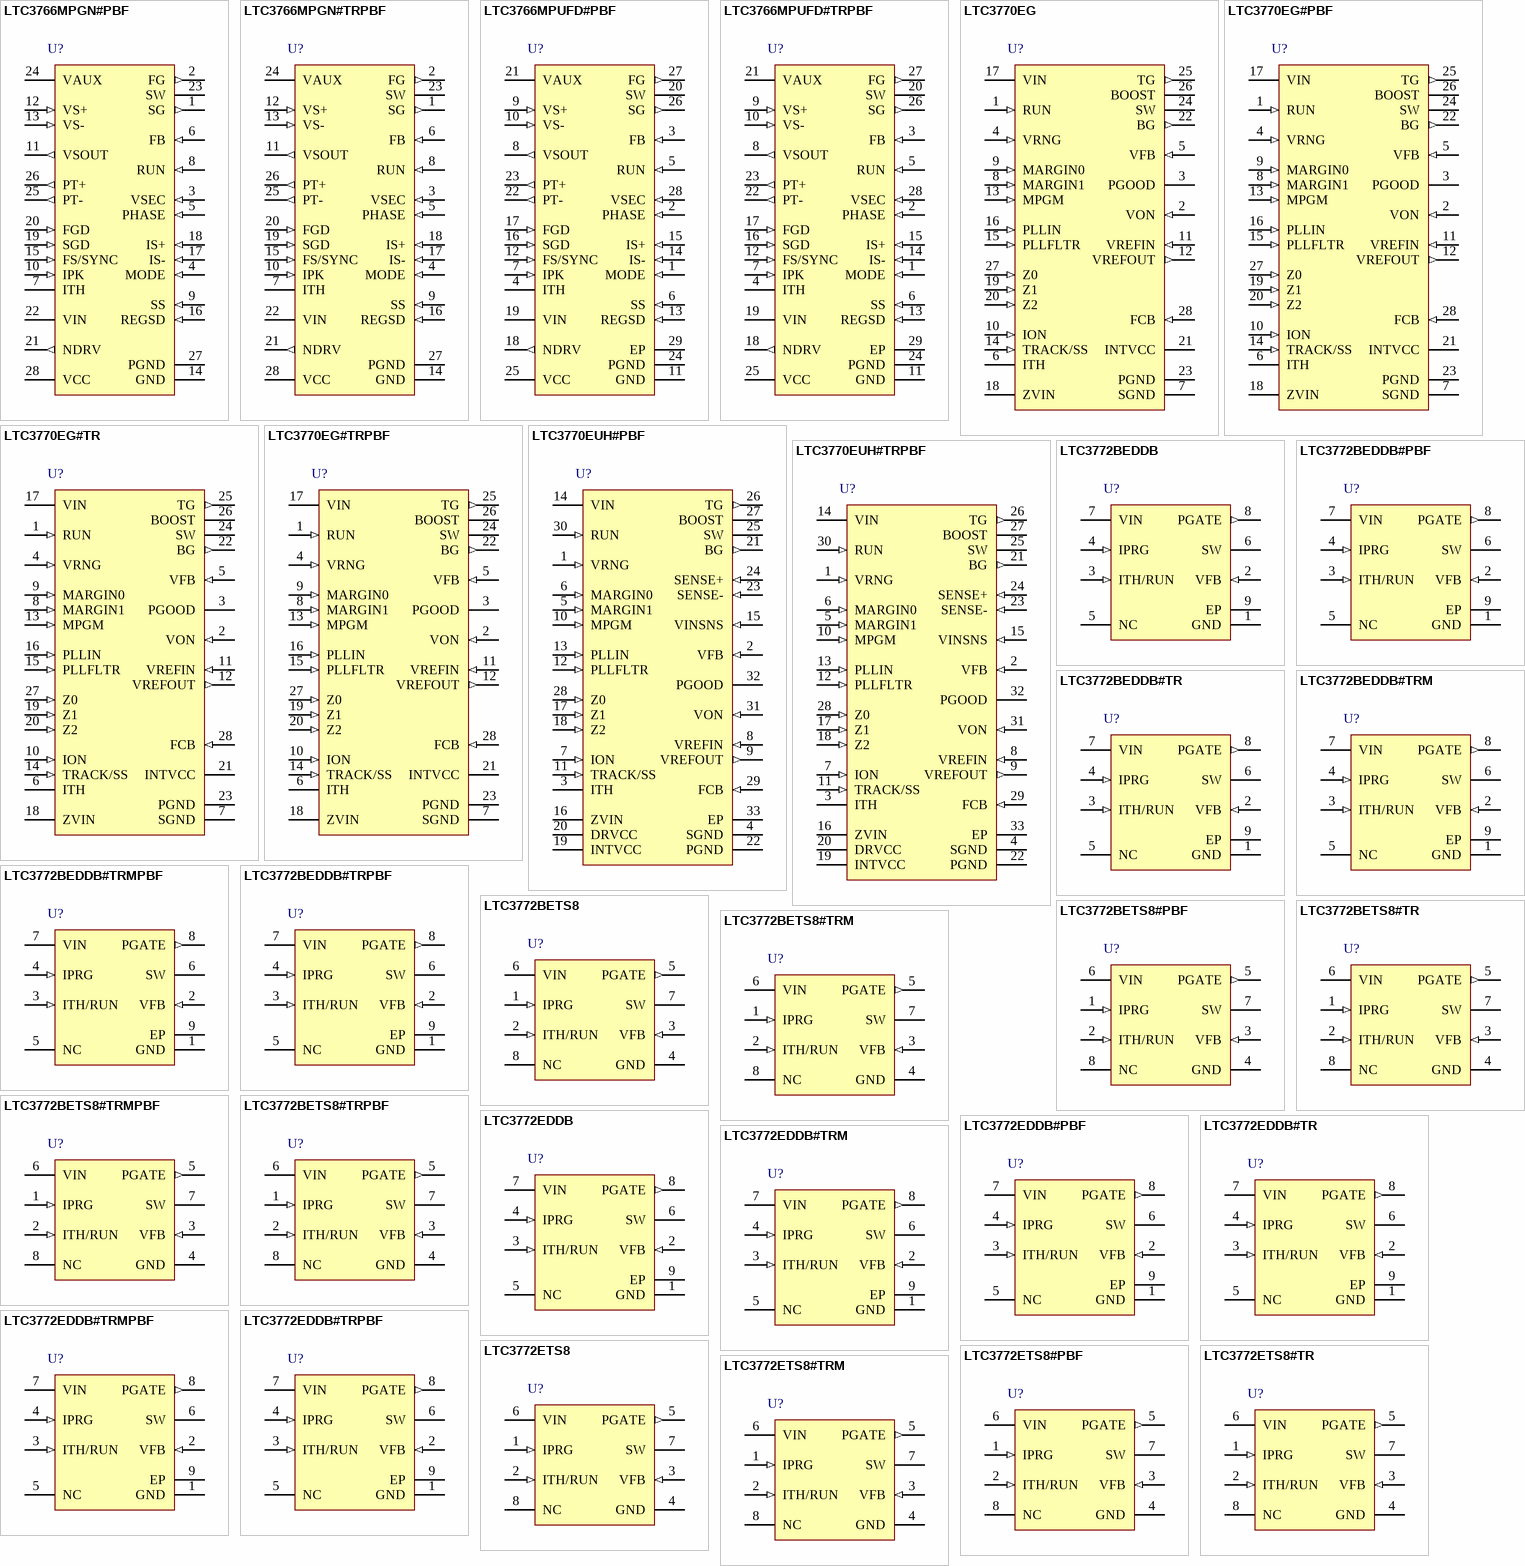
[diagram p68: symbols LTC3766MPGN#PBF to LTC3772ETS8#TRM]